# Altium footprint library BT_Programmer_Shield.PcbLib: 17 footprints (part 1 of 2)
Each footprint in its own frame and in the unit in brackets; x right, y up, seen from the top. Pads: shape width x height; smd on the part's side, far side on the other; paste and mask are expansions set on the pad; w line width, h text height; cw(c..) or ccw(c..) is an arc to the next point about the centre after c.
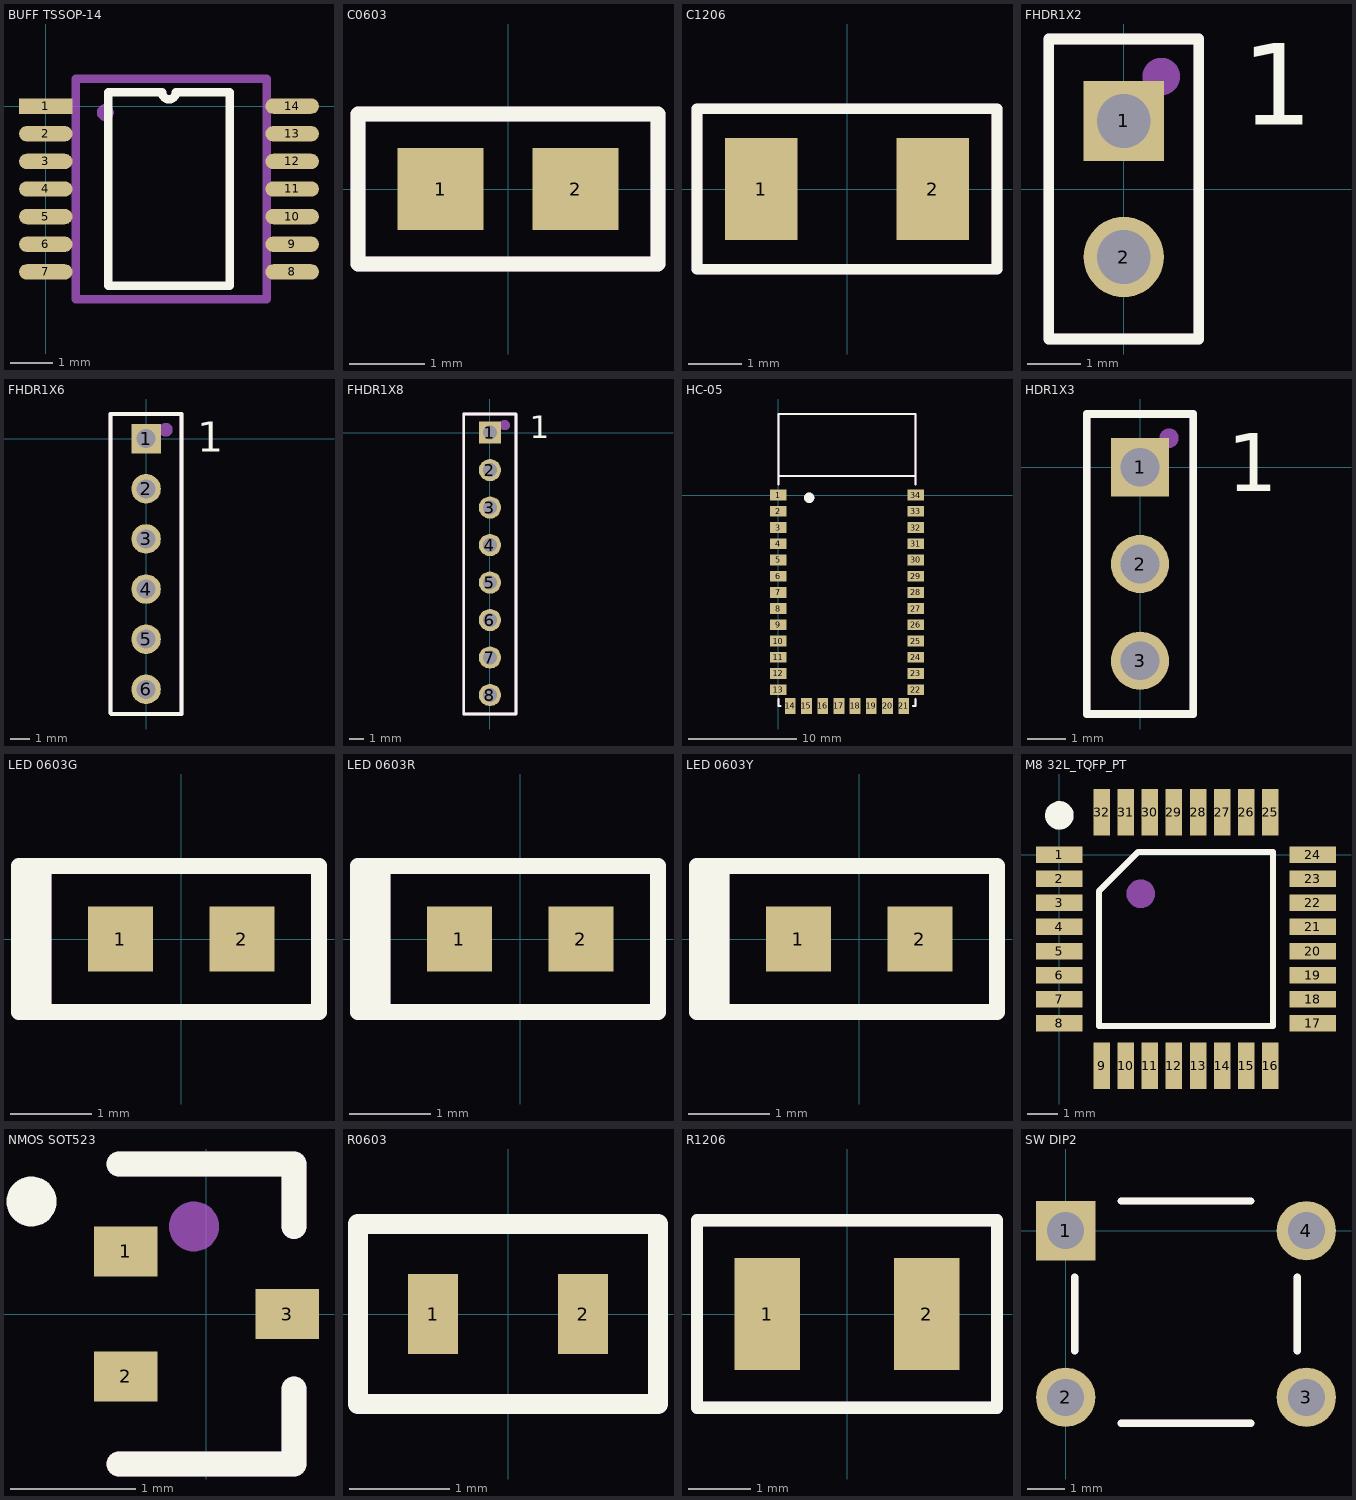
[diagram p0: the footprints below, top view; thin cyan lines are the x and y axes]

## BUFF TSSOP-14 [mm]
pads (14):
  rect 1.26x0.36 smd: 1(0,0)
  oval 1.26x0.36 smd: 2(0,-0.65) 3(0,-1.3) 4(0,-1.95) 5(0,-2.6) 6(0,-3.25) 7(0,-3.9) 8(5.8,-3.9) 9(5.8,-3.25) 10(5.8,-2.6) 11(5.8,-1.95) 12(5.8,-1.3) 13(5.8,-0.65) 14(5.8,0)
Top Overlay:
  lines w0.2: 1.465,-4.225 4.335,-4.225 4.335,0.325 3.062,0.325 cw(c2.9,0.325) 2.738,0.325 1.465,0.325 1.465,-4.225
Mechanical 29:
  circle w0.2: c1.4,-0.15 r0.1
  lines w0.2: 0.7,-4.55 0.7,0.65 5.2,0.65 5.2,-4.55 0.7,-4.55
  text "'.Designator'" at 1.2,-2.65 h0.7
3D body "User Library-TSSOP14-1.step": height 1.11, standoff 0.01, extent -0.3,-4.45 6.1,0.55

## C0603 [mm]
pads (2):
  rect 1.15x1.1 smd: 1(-0.9,0) 2(0.9,0)
Top Overlay:
  lines w0.2: -2,-1 2,-1 2,1 -2,1 -2,-1
Mechanical 29:
  lines w0.2: -2,-1 -2,1 2,1 2,-1 -2,-1
  text "'.Designator'" at -1.6,-0.6 h0.7
3D body "User Library-C0603.stp": height 0.88, standoff 0.01, extent -0.875,-0.467 0.875,0.483

## C1206 [mm]
pads (2):
  rect 1.35x1.9 smd: 1(-1.6,0) 2(1.6,0)
Top Overlay:
  lines w0.2: -2.8,-1.5 -2.8,1.5 2.8,1.5 2.8,-1.5 -2.8,-1.5
Mechanical 29:
  lines w0.2: -2.8,-1.5 2.8,-1.5 2.8,1.5 -2.8,1.5 -2.8,-1.5
  text "'.Designator'" at -2.3,-0.8 h0.7
3D body "User Library-C1206.stp": height 0.89, standoff 0.01, extent -1.7,-0.9 1.7,0.9

## FHDR1X2 [mm]
pads (2):
  rect 1.5x1.5 hole 1: 1(0,1.27)
  round 1.5 hole 1: 2(0,-1.27)
Top Overlay:
  lines w0.2: -1.4,-2.8 1.4,-2.8 1.4,2.8 -1.4,2.8 -1.4,-2.8
  text "1" at 2.2,1.2 h1.52
Mechanical 29:
  circle w0.5: c0.7,2.1 r0.1
  lines w0.2: -1.4,-2.8 -1.4,2.8 1.4,2.8 1.4,-2.8 -1.4,-2.8
3D body "User Library-Header 2x1 2_54mm.step": height 8.51, standoff -2.59, extent -1.44,-2.5 1.4,2.5

## FHDR1X6 [mm]
pads (6):
  rect 1.5x1.5 hole 0.96: 1(0,0)
  round 1.5 hole 0.96: 2(0,-2.54) 3(0,-5.08) 4(0,-7.62) 5(0,-10.16) 6(0,-12.7)
Top Overlay:
  lines w0.2: -1.8,-13.91 -1.8,1.25 1.8,1.25 1.8,-13.95 -1.76,-13.95 -1.8,-13.91
  text "1" at 2.6,-0.65 h1.52
Mechanical 29:
  circle w0.5: c1,0.45 r0.1
  lines w0.2: -1.8,-13.91 -1.76,-13.95 1.8,-13.95 1.8,1.25 -1.8,1.25 -1.8,-13.91
  text "'.Designator'" at -1.3,-6.5 h0.7
3D body "User Library-Header_Fem_1X6.step": height 8.51, standoff -3.19, extent -1.265,-14.25 1.275,1.49

## FHDR1X8 [mm]
pads (8):
  rect 1.5x1.5 hole 0.96: 1(0,0)
  round 1.5 hole 0.96: 2(0,-2.54) 3(0,-5.08) 4(0,-7.62) 5(0,-10.16) 6(0,-12.7) 7(0,-15.24) 8(0,-17.78)
Top Overlay:
  lines w0.2: -1.775,-19.065 -1.775,1.26 1.775,1.26 1.775,-19.065 -1.775,-19.065
  text "1" at 2.7,-0.39 h1.52
Mechanical 29:
  circle w0.5: c1,0.51 r0.1
  lines w0.2: -1.775,-19.065 1.775,-19.065 1.775,1.26 -1.775,1.26 -1.775,-19.065
  text "'.Designator'" at -1.293,-9.281 h0.7
3D body "User Library-Header _Fem_1X8.step": height 8.51, standoff -3.19, extent -1.275,-19.315 1.265,1.505

## HC-05 [mm]
pads (34):
  rect 1.5x1 smd: 1(0,0) 2(0,-1.5) 3(0,-3) 4(0,-4.5) 5(0,-6) 6(0,-7.5) 7(0,-9) 8(0,-10.5) 9(0,-12) 10(0,-13.5) 11(0,-15) 12(0,-16.5) 13(0,-18) 22(12.7,-18) 23(12.7,-16.5) 24(12.7,-15) 25(12.7,-13.5) 26(12.7,-12) 27(12.7,-10.5) 28(12.7,-9) 29(12.7,-7.5) 30(12.7,-6) 31(12.7,-4.5) 32(12.7,-3) 33(12.7,-1.5) 34(12.7,0)
  rect 1x1.5 smd: 14(1.1,-19.5) 15(2.6,-19.5) 16(4.1,-19.5) 17(5.6,-19.5) 18(7.1,-19.5) 19(8.6,-19.5) 20(10.1,-19.5) 21(11.6,-19.5)
Top Overlay:
  circle w0.5: c2.85,-0.25 r0.224
  lines w0.2: 0,-18.875 0,-19.5 0.2,-19.5 ; 0,1 0,7.5 12.7,7.5 12.7,1 ; 0,1.75 12.7,1.75 ; 12.475,-19.5 12.675,-19.5 ; 12.7,-19.5 12.7,-18.875
Mechanical 29:
  circle w0.5: c2.85,-0.25 r0.224
  lines w0.2: 0,-18.875 0,-19.5 0.2,-19.5 ; 0,1 0,7.5 12.7,7.5 12.7,1 ; 0,1.75 12.7,1.75 ; 12.475,-19.5 12.675,-19.5 ; 12.7,-19.5 12.7,-18.875
  text "'.Designator'" at 2.85,-10.25 h1
3D body "User Library-HC05(06).step": height 4.32, standoff 0.01, extent -0.15,-19.75 12.85,7.25

## HDR1X3 [mil]
pads (3):
  rect 60x60 hole 40: 1(0,0)
  round 60 hole 40: 2(0,-100) 3(0,-200)
Top Overlay:
  lines w7.87: -55,-255 55,-255 55,55 -55,55 -55,-255
  text "1" at 90,-25 h60
Mechanical 29:
  circle w10: c30,30 r5
  lines w7.87: -55,-255 55,-255 55,55 -55,55 -55,-255
  text "'.Designator'" at -45,-165 h27.56
3D body "User Library-1x3 TH Pitch 2_54mm.step": height 374.29, standoff -125.54, extent -50,-250 50,50

## LED 0603G [mm]
pads (2):
  rect 0.8x0.8 smd: 1(-0.75,0) 2(0.75,0)
Top Overlay:
  rectangle: -2,-0.9 -1.6,0.9
  lines w0.2: -2,-0.9 1.7,-0.9 1.7,0.9 -2,0.9 -2,-0.9
Mechanical 29:
  rectangle: -2,-0.8 -1.6,0.8
  lines w0.2: -2,-0.9 -2,0.9 1.7,0.9 1.7,-0.9 -2,-0.9
  text "'.Designator'" at -1.4,-0.5 h0.7
3D body "User Library-led_0603G.step": height 0.6, standoff 0, extent -0.81,-0.4 0.81,0.4

## LED 0603R [mm]
pads (2):
  rect 0.8x0.8 smd: 1(-0.75,0) 2(0.75,0)
Top Overlay:
  rectangle: -2,-0.9 -1.6,0.9
  lines w0.2: -2,-0.9 -2,0.9 1.7,0.9 1.7,-0.9 -2,-0.9
Mechanical 29:
  rectangle: -2,-0.8 -1.6,0.8
  lines w0.2: -2,-0.9 1.7,-0.9 1.7,0.9 -2,0.9 -2,-0.9
  text "'.Designator'" at -1.4,-0.5 h0.7
3D body "User Library-led_0603R.step": height 0.6, standoff 0, extent -0.81,-0.4 0.81,0.4

## LED 0603Y [mm]
pads (2):
  rect 0.8x0.8 smd: 1(-0.75,0) 2(0.75,0)
Top Overlay:
  rectangle: -2,-0.9 -1.6,0.9
  lines w0.2: -2,-0.9 -2,0.9 1.7,0.9 1.7,-0.9 -2,-0.9
Mechanical 29:
  rectangle: -2,-0.8 -1.6,0.8
  lines w0.2: -2,-0.9 1.7,-0.9 1.7,0.9 -2,0.9 -2,-0.9
  text "'.Designator'" at -1.4,-0.5 h0.7
3D body "User Library-led_0603Y.step": height 0.6, standoff 0, extent -0.81,-0.4 0.81,0.4

## M8 32L_TQFP_PT [mm]
pads (32):
  rect 1.55x0.55 smd: 1(0,0) 2(0,-0.8) 3(0,-1.6) 4(0,-2.4) 5(0,-3.2) 6(0,-4) 7(0,-4.8) 8(0,-5.6) 17(8.4,-5.6) 18(8.4,-4.8) 19(8.4,-4) 20(8.4,-3.2) 21(8.4,-2.4) 22(8.4,-1.6) 23(8.4,-0.8) 24(8.4,0)
  rect 0.55x1.55 smd: 9(1.4,-7) 10(2.2,-7) 11(3,-7) 12(3.8,-7) 13(4.6,-7) 14(5.4,-7) 15(6.2,-7) 16(7,-7) 25(7,1.4) 26(6.2,1.4) 27(5.4,1.4) 28(4.6,1.4) 29(3.8,1.4) 30(3,1.4) 31(2.2,1.4) 32(1.4,1.4)
Top Overlay:
  circle w0.5: c0,1.3 r0.224
  lines w0.2: 1.31,-5.69 7.09,-5.69 7.09,0.09 2.62,0.09 1.31,-1.22 1.31,-5.69
Mechanical 29:
  circle w0.5: c2.7,-1.3 r0.224
  lines w0.2: 1.31,-5.69 1.31,-1.22 2.62,0.09 7.09,0.09 7.09,-5.69 1.31,-5.69
  text "'.Designator'" at 2.2,-3.8 h0.7
3D body "User Library-tqfp32.step": height 1.2, standoff 0, extent -0.4,-7.424 8.799,1.775

## NMOS SOT523 [mm]
pads (3):
  rect 0.51x0.4 smd: 1(-0.645,0.5) 2(-0.645,-0.5) 3(0.645,0)
Top Overlay:
  circle w0.2: c-1.4,0.9 r0.1
  lines w0.2: -0.7,-1.2 0.7,-1.2 0.7,-0.6 ; -0.7,1.2 0.7,1.2 0.7,0.7
Mechanical 29:
  circle w0.2: c-0.1,0.7 r0.1
  lines w0.2: -0.7,-1.2 0.7,-1.2 0.7,-0.6 ; -0.7,1.2 0.7,1.2 0.7,0.7
  text "'.Designator'" at -0.9,-0.7 h0.7
3D body "User Library-SOT-523.step": height 0.81, standoff -0.04, extent -0.814,-0.8 0.814,0.8

## R0603 [mm]
pads (2):
  rect 0.5x0.8 smd: 1(-0.75,0) 2(0.75,0)
Top Overlay:
  lines w0.2: -1.5,-0.9 -1.5,0.9 1.5,0.9 1.5,-0.9 -1.5,-0.9
Mechanical 29:
  lines w0.2: -1.5,-0.9 1.5,-0.9 1.5,0.9 -1.5,0.9 -1.5,-0.9
  text "'.Designator'" at -1.5,-0.5 h0.7
3D body "User Library-CR1608-0603.step": height 0.46, standoff 0.01, extent -0.8,-0.4 0.8,0.4

## R1206 [mm]
pads (2):
  rect 1.05x1.8 smd: 1(-1.275,0) 2(1.275,0)
Top Overlay:
  lines w0.2: -2.4,-1.5 2.4,-1.5 2.4,1.5 -2.4,1.5 -2.4,-1.5
Mechanical 29:
  lines w0.2: -2.4,-1.5 -2.4,1.5 2.4,1.5 2.4,-1.5 -2.4,-1.5
  text "'.Designator'" at -2.1,-0.8 h0.7
3D body "User Library-CR3216-1206.step": height 0.61, standoff 0.01, extent -1.6,-0.8 1.6,0.8

## SW DIP2 [mm]
pads (4):
  rect 1.6x1.6 hole 1: 1(0,0)
  round 1.6 hole 1: 2(0,-4.5) 3(6.5,-4.5) 4(6.5,0)
Top Overlay:
  lines w0.2: 0.25,-3.25 0.25,-2.25 0.25,-1.25 ; 1.5,-5.2 5,-5.2 ; 1.5,0.8 5,0.8 ; 6.25,-3.25 6.25,-2.25 6.25,-1.25
Mechanical 29:
  lines w0.2: 0.25,-3.25 0.25,-2.25 0.25,-1.25 ; 1.5,-5.2 5,-5.2 ; 1.5,0.8 5,0.8 ; 6.25,-3.25 6.25,-2.25 6.25,-1.25
  text "'.Designator'" at 1.75,-2.55 h0.7
3D body "User Library-SW_DIP2.stp": height 5.01, standoff -3.49, extent -0.65,-5.3 7.25,0.9